# EAGLE library part ADSP_BF561 (library analog-devices)
ADSP_BF561 finishd by 439390897ADSP_BF561_a.pdf at 2006.06.08 Auto generated by make-symbol-device-package-bsdl.ulp Rev. 13 Source: 37918753ADSP_BF561_256_MBGA_rev0_3.bsdl
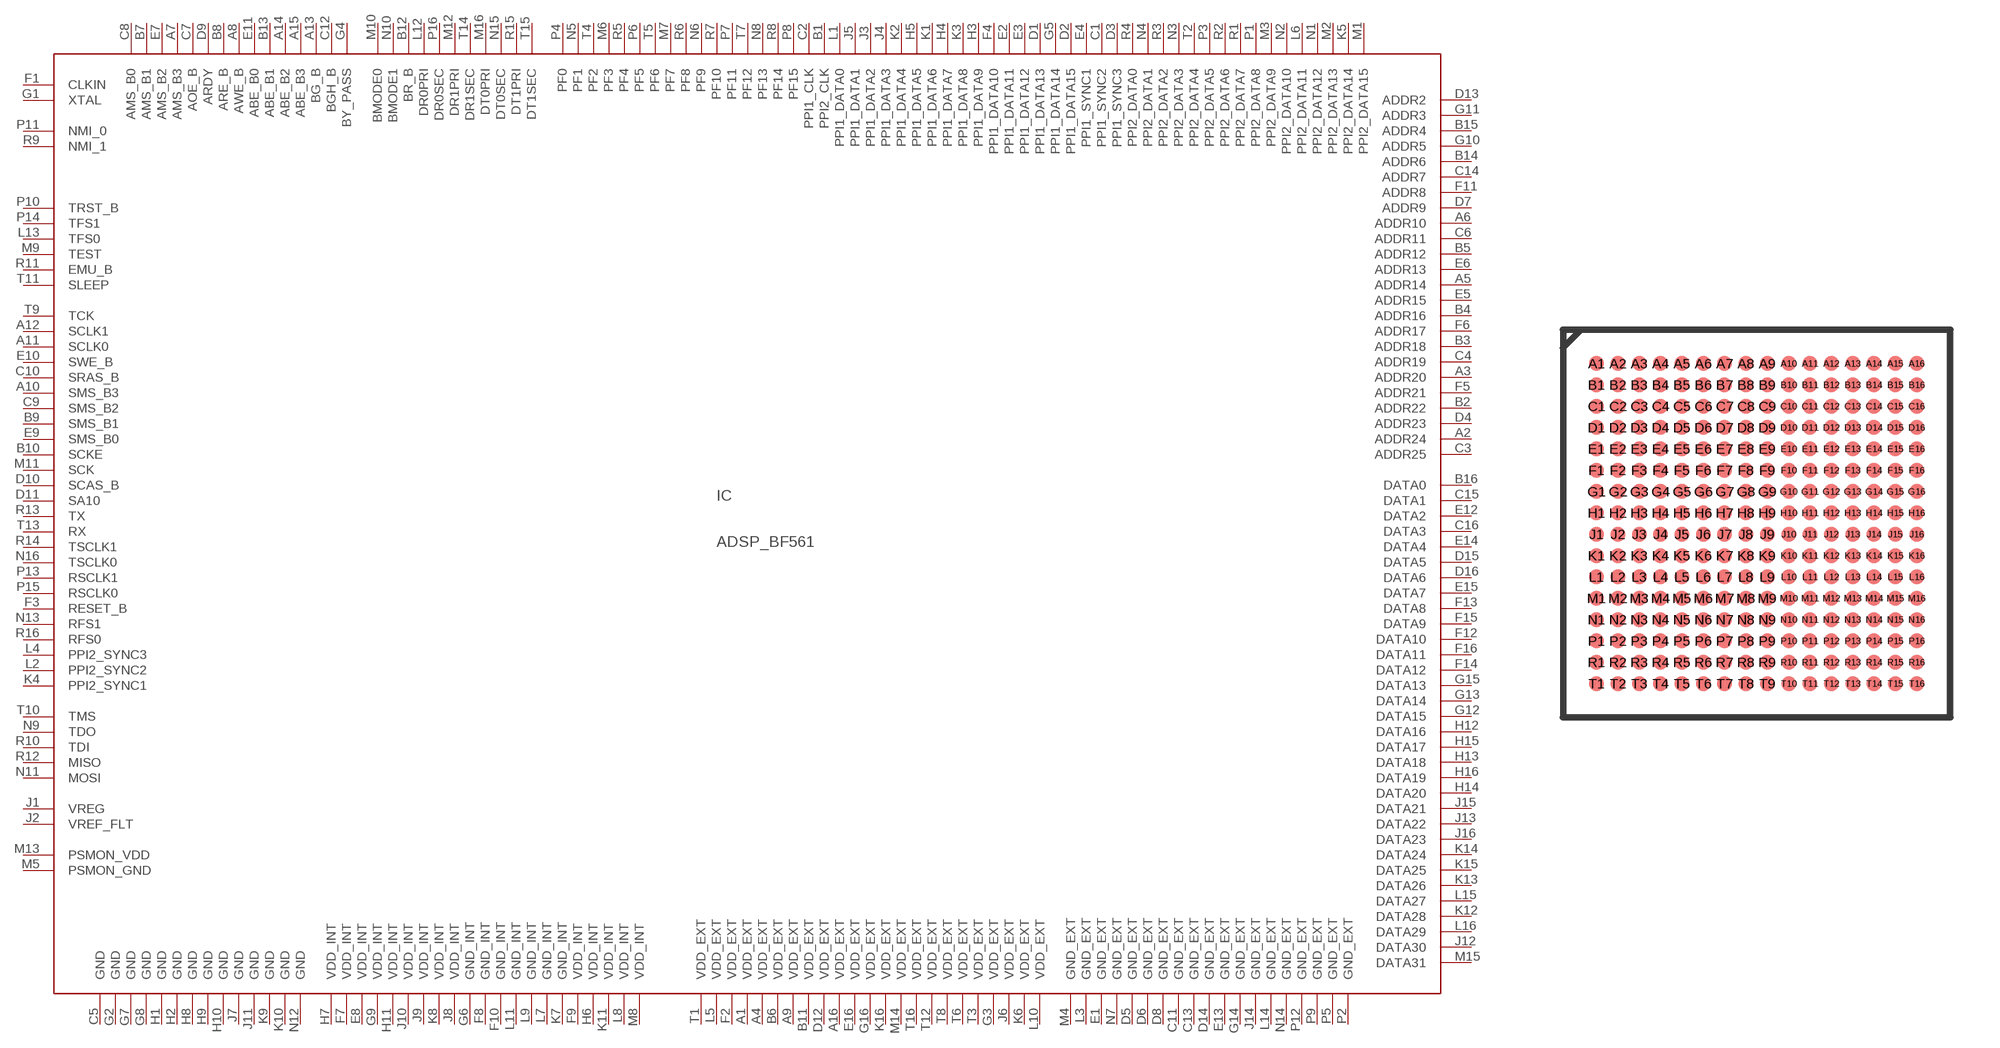
[diagram p6: symbol with the pads of MPBGA256; footprint MPBGA256]

Designator prefix IC

## ADSP_BF561-MBGA265 (OC_FARNELL: unknown; OC_NEWARK: unknown)  [MPBGA256]
A1  VDD_EXT  pwr
A2  ADDR24  out
A3  ADDR20  out
A4  VDD_EXT  pwr
A5  ADDR14  out
A6  ADDR10  out
A7  AMS_B3  out
A8  AWE_B  out
A9  VDD_EXT  pwr
A10  SMS_B3  out
A11  SCLK0  out
A12  SCLK1  out
A13  BG_B  out
A14  ABE_B2  out
A15  ABE_B3  out
A16  VDD_EXT  pwr
B1  PPI2_CLK  in
B2  ADDR22  out
B3  ADDR18  out
B4  ADDR16  out
B5  ADDR12  out
B6  VDD_EXT  pwr
B7  AMS_B1  out
B8  ARE_B  out
B9  SMS_B1  out
B10  SCKE  out
B11  VDD_EXT  pwr
B12  BR_B  in
B13  ABE_B1  out
B14  ADDR6  out
B15  ADDR4  out
B16  DATA0
C1  PPI1_SYNC2
C2  PPI1_CLK  in
C3  ADDR25  out
C4  ADDR19  out
C5  GND  pwr
C6  ADDR11  out
C7  AOE_B  out
C8  AMS_B0  out
C9  SMS_B2  out
C10  SRAS_B  out
C11  GND_EXT  pwr
C12  BGH_B  out
C13  GND_EXT  pwr
C14  ADDR7  out
C15  DATA1
C16  DATA3
D1  PPI1_DATA13
D2  PPI1_DATA15
D3  PPI1_SYNC3
D4  ADDR23  out
D5  GND_EXT  pwr
D6  GND_EXT  pwr
D7  ADDR9  out
D8  GND_EXT  pwr
D9  ARDY  in
D10  SCAS_B  out
D11  SA10  out
D12  VDD_EXT  pwr
D13  ADDR2  out
D14  GND_EXT  pwr
D15  DATA5
D16  DATA6
E1  GND_EXT  pwr
E2  PPI1_DATA11
E3  PPI1_DATA12
E4  PPI1_SYNC1
E5  ADDR15  out
E6  ADDR13  out
E7  AMS_B2  out
E8  VDD_INT  pwr
E9  SMS_B0  out
E10  SWE_B  out
E11  ABE_B0  out
E12  DATA2
E13  GND_EXT  pwr
E14  DATA4
E15  DATA7
E16  VDD_EXT  pwr
F1  CLKIN  in
F2  VDD_EXT  pwr
F3  RESET_B  in
F4  PPI1_DATA10
F5  ADDR21  out
F6  ADDR17  out
F7  VDD_INT  pwr
F8  GND_INT  pwr
F9  VDD_INT  pwr
F10  GND_INT  pwr
F11  ADDR8  out
F12  DATA10
F13  DATA8
F14  DATA12
F15  DATA9
F16  DATA11
G1  XTAL  out
G2  GND  pwr
G3  VDD_EXT  pwr
G4  BY_PASS  in
G5  PPI1_DATA14
G6  GND_INT  pwr
G7  GND  pwr
G8  GND  pwr
G9  VDD_INT  pwr
G10  ADDR5  out
G11  ADDR3  out
G12  DATA15
G13  DATA14
G14  GND_EXT  pwr
G15  DATA13
G16  VDD_EXT  pwr
H1  GND  pwr
H2  GND  pwr
H3  PPI1_DATA9
H4  PPI1_DATA7
H5  PPI1_DATA5
H6  VDD_INT  pwr
H7  VDD_INT  pwr
H8  GND  pwr
H9  GND  pwr
H10  GND  pwr
H11  VDD_INT  pwr
H12  DATA16
H13  DATA18
H14  DATA20
H15  DATA17
H16  DATA19
J1  VREG  in
J2  VREF_FLT  in
J3  PPI1_DATA2
J4  PPI1_DATA3
J5  PPI1_DATA1
J6  VDD_EXT  pwr
J7  GND  pwr
J8  VDD_INT  pwr
J9  VDD_INT  pwr
J10  VDD_INT  pwr
J11  GND  pwr
J12  DATA30
J13  DATA22
J14  GND_EXT  pwr
J15  DATA21
J16  DATA23
K1  PPI1_DATA6
K2  PPI1_DATA4
K3  PPI1_DATA8
K4  PPI2_SYNC1
K5  PPI2_DATA14
K6  VDD_EXT  pwr
K7  GND_INT  pwr
K8  VDD_INT  pwr
K9  GND  pwr
K10  GND  pwr
K11  VDD_INT  pwr
K12  DATA28
K13  DATA26
K14  DATA24
K15  DATA25
K16  VDD_EXT  pwr
L1  PPI1_DATA0
L2  PPI2_SYNC2
L3  GND_EXT  pwr
L4  PPI2_SYNC3
L5  VDD_EXT  pwr
L6  PPI2_DATA11
L7  GND_INT  pwr
L8  VDD_INT  pwr
L9  GND_INT  pwr
L10  VDD_EXT  pwr
L11  GND_INT  pwr
L12  DR0PRI
L13  TFS0
L14  GND_EXT  pwr
L15  DATA27
L16  DATA29
M1  PPI2_DATA15
M2  PPI2_DATA13
M3  PPI2_DATA9
M4  GND_EXT  pwr
M5  PSMON_GND  pwr
M6  PF3
M7  PF7
M8  VDD_INT  pwr
M9  TEST  in
M10  BMODE0  in
M11  SCK
M12  DR1PRI
M13  PSMON_VDD  pwr
M14  VDD_EXT  pwr
M15  DATA31
M16  DT0PRI
N1  PPI2_DATA12
N2  PPI2_DATA10
N3  PPI2_DATA3
N4  PPI2_DATA1
N5  PF1
N6  PF9
N7  GND_EXT  pwr
N8  PF13
N9  TDO  out
N10  BMODE1  in
N11  MOSI
N12  GND  pwr
N13  RFS1
N14  GND_EXT  pwr
N15  DT0SEC
N16  TSCLK0
P1  PPI2_DATA8
P2  GND_EXT  pwr
P3  PPI2_DATA5
P4  PF0
P5  GND_EXT  pwr
P6  PF5
P7  PF11
P8  PF15
P9  GND_EXT  pwr
P10  TRST_B  in
P11  NMI_0  in
P12  GND_EXT  pwr
P13  RSCLK1
P14  TFS1
P15  RSCLK0
P16  DR0SEC
R1  PPI2_DATA7
R2  PPI2_DATA6
R3  PPI2_DATA2
R4  PPI2_DATA0
R5  PF4
R6  PF8
R7  PF10
R8  PF14
R9  NMI_1  in
R10  TDI  in
R11  EMU_B  out
R12  MISO
R13  TX
R14  TSCLK1
R15  DT1PRI
R16  RFS0
T1  VDD_EXT  pwr
T2  PPI2_DATA4
T3  VDD_EXT  pwr
T4  PF2
T5  PF6
T6  VDD_EXT  pwr
T7  PF12
T8  VDD_EXT  pwr
T9  TCK  in
T10  TMS  in
T11  SLEEP  out
T12  VDD_EXT  pwr
T13  RX
T14  DR1SEC
T15  DT1SEC
T16  VDD_EXT  pwr

## Footprint MPBGA256 (pad centres in mm)
MBGA265 Auto generated by make-symbol-device-package-bsdl.ulp Rev. 13 Source: 37918753ADSP_BF561_256_MBGA_rev0_3.bsdl
smd 0.45 x 0.45: A1 -4.875,4.875; A2 -4.225,4.875; A3 -3.575,4.875; A4 -2.925,4.875; A5 -2.275,4.875; A6 -1.625,4.875; A7 -0.975,4.875; A8 -0.325,4.875; A9 0.325,4.875; A10 0.975,4.875; A11 1.625,4.875; A12 2.275,4.875; A13 2.925,4.875; A14 3.575,4.875; A15 4.225,4.875; A16 4.875,4.875; B1 -4.875,4.225; B2 -4.225,4.225; B3 -3.575,4.225; B4 -2.925,4.225; B5 -2.275,4.225; B6 -1.625,4.225; B7 -0.975,4.225; B8 -0.325,4.225; B9 0.325,4.225; B10 0.975,4.225; B11 1.625,4.225; B12 2.275,4.225; B13 2.925,4.225; B14 3.575,4.225; B15 4.225,4.225; B16 4.875,4.225; C1 -4.875,3.575; C2 -4.225,3.575; C3 -3.575,3.575; C4 -2.925,3.575; C5 -2.275,3.575; C6 -1.625,3.575; C7 -0.975,3.575; C8 -0.325,3.575; C9 0.325,3.575; C10 0.975,3.575; C11 1.625,3.575; C12 2.275,3.575; C13 2.925,3.575; C14 3.575,3.575; C15 4.225,3.575; C16 4.875,3.575; D1 -4.875,2.925; D2 -4.225,2.925; D3 -3.575,2.925; D4 -2.925,2.925; D5 -2.275,2.925; D6 -1.625,2.925; D7 -0.975,2.925; D8 -0.325,2.925; D9 0.325,2.925; D10 0.975,2.925; D11 1.625,2.925; D12 2.275,2.925; D13 2.925,2.925; D14 3.575,2.925; D15 4.225,2.925; D16 4.875,2.925; E1 -4.875,2.275; E2 -4.225,2.275; E3 -3.575,2.275; E4 -2.925,2.275; E5 -2.275,2.275; E6 -1.625,2.275; E7 -0.975,2.275; E8 -0.325,2.275; E9 0.325,2.275; E10 0.975,2.275; E11 1.625,2.275; E12 2.275,2.275; E13 2.925,2.275; E14 3.575,2.275; E15 4.225,2.275; E16 4.875,2.275; F1 -4.875,1.625; F2 -4.225,1.625; F3 -3.575,1.625; F4 -2.925,1.625; F5 -2.275,1.625; F6 -1.625,1.625; F7 -0.975,1.625; F8 -0.325,1.625; F9 0.325,1.625; F10 0.975,1.625; F11 1.625,1.625; F12 2.275,1.625; F13 2.925,1.625; F14 3.575,1.625; F15 4.225,1.625; F16 4.875,1.625; G1 -4.875,0.975; G2 -4.225,0.975; G3 -3.575,0.975; G4 -2.925,0.975; G5 -2.275,0.975; G6 -1.625,0.975; G7 -0.975,0.975; G8 -0.325,0.975; G9 0.325,0.975; G10 0.975,0.975; G11 1.625,0.975; G12 2.275,0.975; G13 2.925,0.975; G14 3.575,0.975; G15 4.225,0.975; G16 4.875,0.975; H1 -4.875,0.325; H2 -4.225,0.325; H3 -3.575,0.325; H4 -2.925,0.325; H5 -2.275,0.325; H6 -1.625,0.325; H7 -0.975,0.325; H8 -0.325,0.325; H9 0.325,0.325; H10 0.975,0.325; H11 1.625,0.325; H12 2.275,0.325; H13 2.925,0.325; H14 3.575,0.325; H15 4.225,0.325; H16 4.875,0.325; J1 -4.875,-0.325; J2 -4.225,-0.325; J3 -3.575,-0.325; J4 -2.925,-0.325; J5 -2.275,-0.325; J6 -1.625,-0.325; J7 -0.975,-0.325; J8 -0.325,-0.325; J9 0.325,-0.325; J10 0.975,-0.325; J11 1.625,-0.325; J12 2.275,-0.325; J13 2.925,-0.325; J14 3.575,-0.325; J15 4.225,-0.325; J16 4.875,-0.325; K1 -4.875,-0.975; K2 -4.225,-0.975; K3 -3.575,-0.975; K4 -2.925,-0.975; K5 -2.275,-0.975; K6 -1.625,-0.975; K7 -0.975,-0.975; K8 -0.325,-0.975; K9 0.325,-0.975; K10 0.975,-0.975; K11 1.625,-0.975; K12 2.275,-0.975; K13 2.925,-0.975; K14 3.575,-0.975; K15 4.225,-0.975; K16 4.875,-0.975; L1 -4.875,-1.625; L2 -4.225,-1.625; L3 -3.575,-1.625; L4 -2.925,-1.625; L5 -2.275,-1.625; L6 -1.625,-1.625; L7 -0.975,-1.625; L8 -0.325,-1.625; L9 0.325,-1.625; L10 0.975,-1.625; L11 1.625,-1.625; L12 2.275,-1.625; L13 2.925,-1.625; L14 3.575,-1.625; L15 4.225,-1.625; L16 4.875,-1.625; M1 -4.875,-2.275; M2 -4.225,-2.275; M3 -3.575,-2.275; M4 -2.925,-2.275; M5 -2.275,-2.275; M6 -1.625,-2.275; M7 -0.975,-2.275; M8 -0.325,-2.275; M9 0.325,-2.275; M10 0.975,-2.275; M11 1.625,-2.275; M12 2.275,-2.275; M13 2.925,-2.275; M14 3.575,-2.275; M15 4.225,-2.275; M16 4.875,-2.275; N1 -4.875,-2.925; N2 -4.225,-2.925; N3 -3.575,-2.925; N4 -2.925,-2.925; N5 -2.275,-2.925; N6 -1.625,-2.925; N7 -0.975,-2.925; N8 -0.325,-2.925; N9 0.325,-2.925; N10 0.975,-2.925; N11 1.625,-2.925; N12 2.275,-2.925; N13 2.925,-2.925; N14 3.575,-2.925; N15 4.225,-2.925; N16 4.875,-2.925; P1 -4.875,-3.575; P2 -4.225,-3.575; P3 -3.575,-3.575; P4 -2.925,-3.575; P5 -2.275,-3.575; P6 -1.625,-3.575; P7 -0.975,-3.575; P8 -0.325,-3.575; P9 0.325,-3.575; P10 0.975,-3.575; P11 1.625,-3.575; P12 2.275,-3.575; P13 2.925,-3.575; P14 3.575,-3.575; P15 4.225,-3.575; P16 4.875,-3.575; R1 -4.875,-4.225; R2 -4.225,-4.225; R3 -3.575,-4.225; R4 -2.925,-4.225; R5 -2.275,-4.225; R6 -1.625,-4.225; R7 -0.975,-4.225; R8 -0.325,-4.225; R9 0.325,-4.225; R10 0.975,-4.225; R11 1.625,-4.225; R12 2.275,-4.225; R13 2.925,-4.225; R14 3.575,-4.225; R15 4.225,-4.225; R16 4.875,-4.225; T1 -4.875,-4.875; T2 -4.225,-4.875; T3 -3.575,-4.875; T4 -2.925,-4.875; T5 -2.275,-4.875; T6 -1.625,-4.875; T7 -0.975,-4.875; T8 -0.325,-4.875; T9 0.325,-4.875; T10 0.975,-4.875; T11 1.625,-4.875; T12 2.275,-4.875; T13 2.925,-4.875; T14 3.575,-4.875; T15 4.225,-4.875; T16 4.875,-4.875